# EAGLE library part 1X11H_BB (library MOTO_LIB)
1x11 1 mm paste through hole, 1 mm top Ring, 0.1 mm bottom Ring
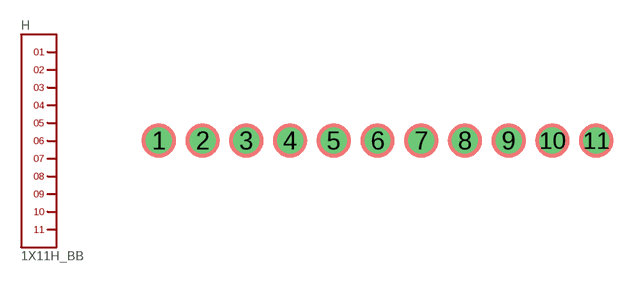
[diagram p8: symbol with the pads of 1X11H_BB; footprint 1X11H_BB]

Designator prefix H

## 1X11H_BB  [1X11H_BB]
1  1
2  2
3  3
4  4
5  5
6  6
7  7
8  8
9  9
10  10
11  11

## Footprint 1X11H_BB (pad centres in mm)
Test pin, Through hole, gold pated
drill 1 pad 1.2: 1 0,0; 2 2.54,0; 3 5.08,0; 4 7.62,0; 5 10.16,0; 6 12.7,0; 7 15.24,0; 8 17.78,0; 9 20.32,0; 10 22.86,0; 11 25.4,0